# Altium footprint library CN S4B-ZR(LF)(SN)_JST.PcbLib: 1 footprints
Each footprint in its own frame and in the unit in brackets; x right, y up, seen from the top. Pads: shape width x height; smd on the part's side, far side on the other; paste and mask are expansions set on the pad; w line width, h text height; cw(c..) or ccw(c..) is an arc to the next point about the centre after c.
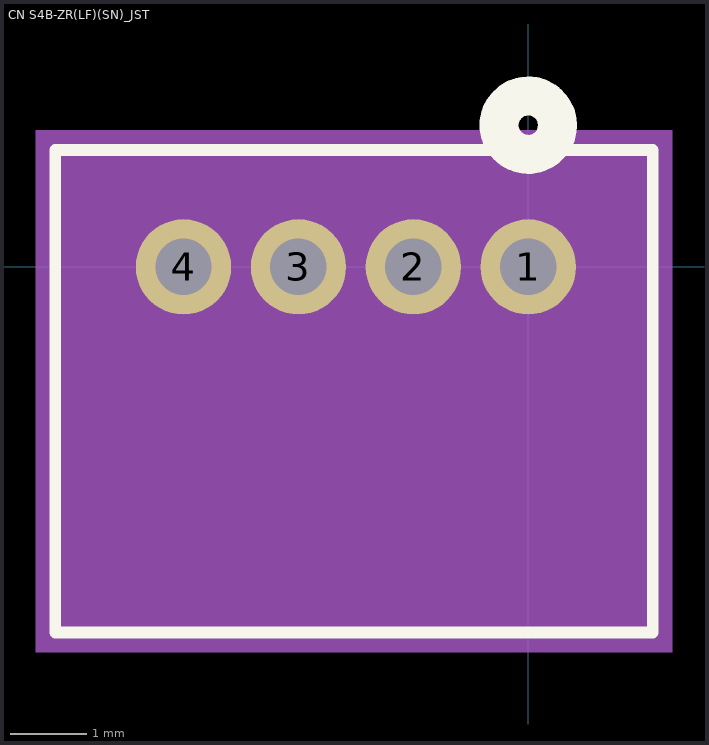
[diagram p0: the footprint, top view; thin cyan lines are the x and y axes]

## CN S4B-ZR(LF)(SN)_JST [mil]
pads (4):
  round 49 hole 29 mask+0: 1(0,0) 2(-59.06,0) 3(-118.11,0) 4(-177.17,0)
Top Overlay:
  circle w20: c0,72.83 r15
  lines w6: -243.06,-187.88 63.94,-187.88 63.94,60.12 -243.06,60.12 -243.06,-187.88
Bottom Overlay:
  circle w20: c0,72.83 r15
Mechanical 5:
  region: -253.06,70.12 73.94,70.12 73.94,-197.88 -253.06,-197.88
Mechanical 13:
  circle w20: c0,-75 r15
  lines w1: -238.06,-182.88 58.94,-182.88 58.94,55.12 -238.06,55.12 -238.06,-182.88
Mechanical 15:
  region: 68.94,65.12 -248.06,65.12 -248.06,-192.88 68.94,-192.88
  lines w6: -248.06,-192.88 -248.06,65.12 68.94,65.12 68.94,-192.88 -248.06,-192.88
3D body: height 10, standoff 0, extent 0,0 10,10
3D body "S4B-ZR.STEP": height 146.17, standoff -105.79, extent -235.24,-181.1 60.04,55.12